# Altium schematic symbol library IR2153S.SchLib: 1 symbol
Pins are listed as number, name and electrical type; pins without a type are passive.

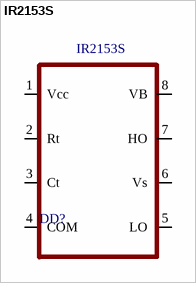
[diagram p0: symbol IR2153S]

## IR2153S
designator DD?
footprint Model Name (Footprint not found)
pins: 1 Vcc, 2 Rt, 3 Ct, 4 COM, 5 LO, 6 Vs, 7 HO, 8 VB